# Altium footprint library G6S-2.PcbLib: 1 footprints
Each footprint in its own frame and in the unit in brackets; x right, y up, seen from the top. Pads: shape width x height; smd on the part's side, far side on the other; paste and mask are expansions set on the pad; w line width, h text height; cw(c..) or ccw(c..) is an arc to the next point about the centre after c.
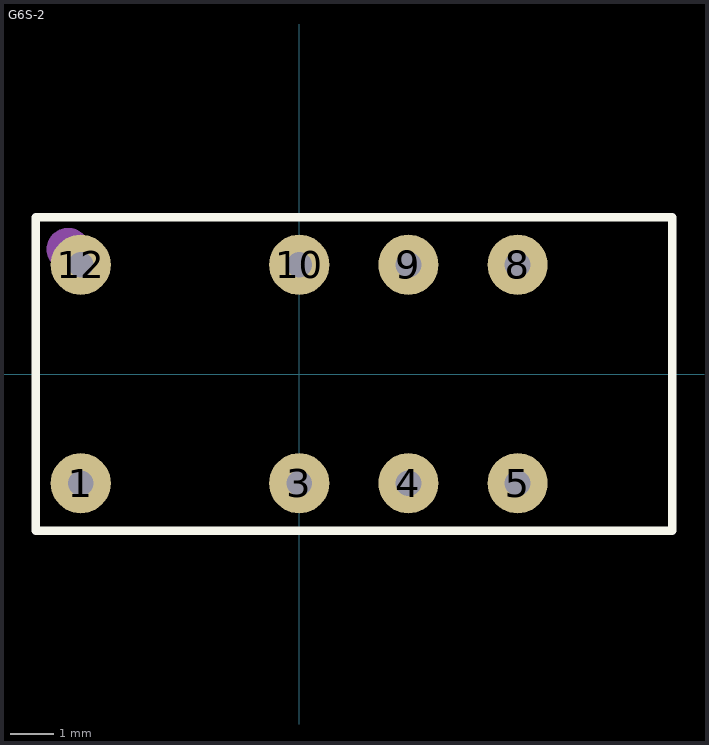
[diagram p0: the footprint, top view; thin cyan lines are the x and y axes]

## G6S-2 [mm]
pads (8):
  round 1.4 hole 0.6: 1(-5.08,-2.54) 3(0,-2.54) 4(2.54,-2.54) 5(5.08,-2.54) 8(5.08,2.54) 9(2.54,2.54) 10(0,2.54) 12(-5.08,2.54)
Top Overlay:
  lines w0.2: -6.125,-3.65 8.675,-3.65 8.675,3.65 -6.125,3.65 -6.125,-3.65
Top Assembly:
  circle w0.5: c-5.375,2.9 r0.25
  lines w0.1: -6.125,-3.65 -6.125,3.65 8.675,3.65 8.675,-3.65 -6.125,-3.65
  text "'.Designator'" at -0.45,-0.325 h0.7
3D body "G6S_2_Y.step": height 9.2, standoff -2.95, extent -6.13,-3.65 8.67,3.65
3D body: height 1.4, standoff -1.4, extent -1.9,1.7 -1.9,1.7